# Altium schematic symbol library Wifi Relay V3.SchLib: 3 symbols
Pins are listed as number, name and electrical type; pins without a type are passive.

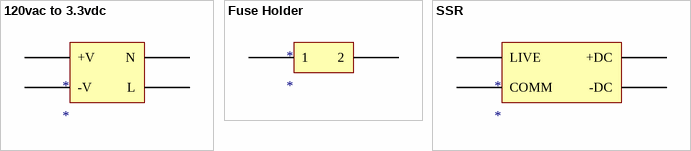
[diagram p0: symbols 120vac to 3.3vdc to SSR]

## 120vac to 3.3vdc
designator *
footprint 120vac to 3.3vdc
pins: +V, -V, L, N

## Fuse Holder
designator *
footprint Fuse Holder (5mm x 20mm)
pins: 1, 2

## SSR
designator *
footprint Relay
pins: 1 COMM, 2 LIVE, 3 +DC, 4 -DC